# EAGLE library part XC18V01_SO20 (library xilinx-xc18v)
xc18v01_so20 edit this description Auto generated by make-symbol-device-package-bsdl.ulp Rev. 26 Source: xc18v01_so20.bsd
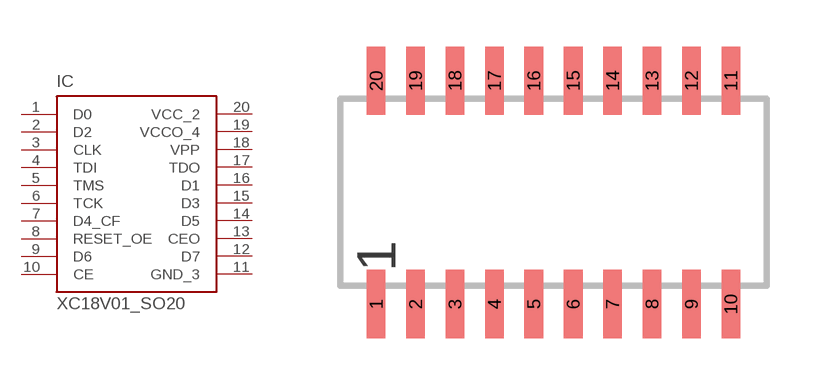
[diagram p0: symbol with the pads of SOP20; footprint SOP20]

Designator prefix IC

## XC18V01_SO20 (OC_FARNELL: unknown; OC_NEWARK: unknown)  [SOP20]
1  D0  out
2  D2  out
3  CLK  in
4  TDI  in
5  TMS  in
6  TCK  in
7  D4_CF  out
8  RESET_OE
9  D6  out
10  CE  in
11  GND_3  pas
12  D7  out
13  CEO  out
14  D5  out
15  D3  out
16  D1  out
17  TDO  out
18  VPP  pas
19  VCCO_4  pas
20  VCC_2  pas

## Footprint SOP20 (pad centres in mm)
SMALL OUTLINE PACKAGE
smd 0.6 x 2.2: 1 -5.715,-3.6; 2 -4.445,-3.6; 3 -3.175,-3.6; 4 -1.905,-3.6; 5 -0.635,-3.6; 6 0.635,-3.6; 7 1.905,-3.6; 8 3.175,-3.6; 9 4.445,-3.6; 10 5.715,-3.6; 11 5.715,3.6; 12 4.445,3.6; 13 3.175,3.6; 14 1.905,3.6; 15 0.635,3.6; 16 -0.635,3.6; 17 -1.905,3.6; 18 -3.175,3.6; 19 -4.445,3.6; 20 -5.715,3.6